# EAGLE library part MA06-1 (library FTDI)
PIN HEADER
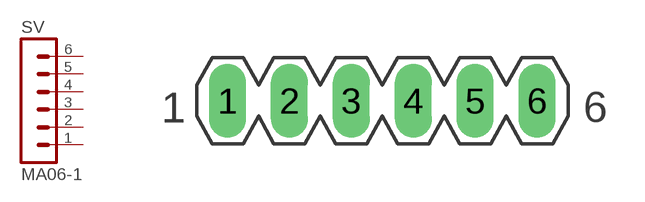
[diagram p0: symbol with the pads of MA06-1; footprint MA06-1]

Designator prefix SV

## MA06-1 (OC_FARNELL: unknown; OC_NEWARK: unknown)  [MA06-1]
1  GND  pas
2  CTS  pas
3  VCC  pas
4  TX  pas
5  RX  pas
6  RTS  pas

## Footprint MA06-1 (pad centres in mm)
PIN HEADER
drill 1.016 long: 1 -6.35,0; 2 -3.81,0; 3 -1.27,0; 4 1.27,0; 5 3.81,0; 6 6.35,0